# Altium schematic symbol library IC.DDS,LO,PLL.SchLib: 8 symbols
Pins are listed as number, name and electrical type; pins without a type are passive.

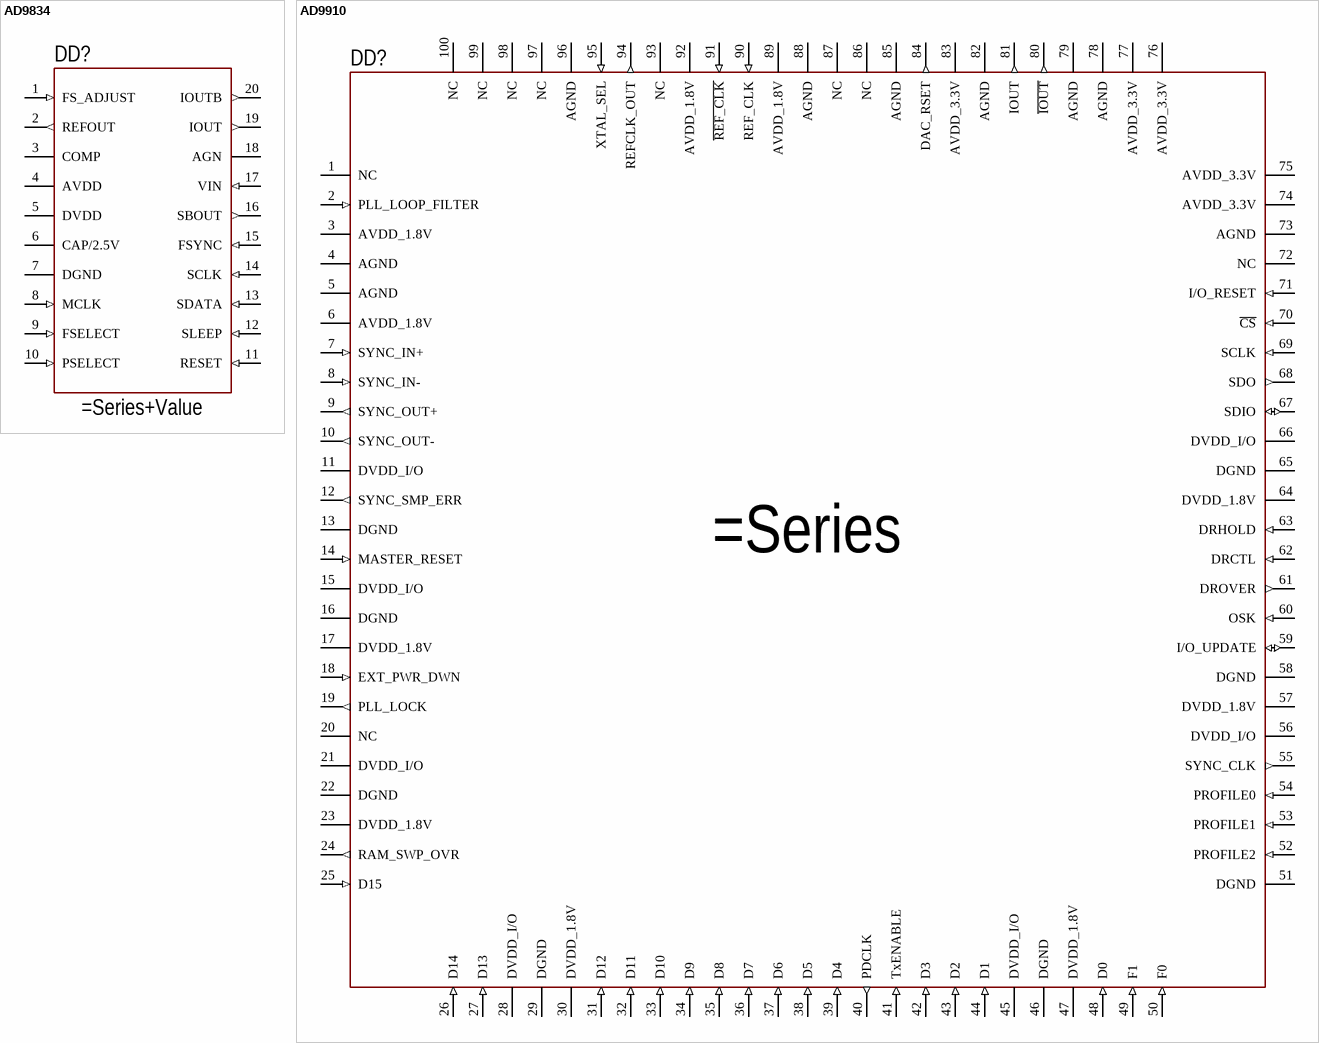
[diagram p0: symbols AD9834 to AD9910]

## AD9834
designator DD?
75 MHz Complete DDS, 20 mW Power, 2.3 V to 5.5 V
pins: 1 FS_ADJUST (in), 2 REFOUT (out), 3 COMP, 4 AVDD, 5 DVDD, 6 CAP/2.5V, 7 DGND, 8 MCLK (in), 9 FSELECT (in), 10 PSELECT (in), 11 RESET (in), 12 SLEEP (in), 13 SDATA (in), 14 SCLK (in), 15 FSYNC (in), 16 SBOUT (out), 17 VIN (in), 18 AGN, 19 IOUT (out), 20 IOUTB (out)

## AD9910
designator DD?
1 GSPS, 14-Bit, 3.3 V CMOS Direct Digital Synthesizer
pins: 1 NC, 2 PLL_LOOP_FILTER (in), 3 AVDD_1.8V, 4 AGND, 5 AGND, 6 AVDD_1.8V, 7 SYNC_IN+ (in), 8 SYNC_IN- (in), 9 SYNC_OUT+ (out), 10 SYNC_OUT- (out), 11 DVDD_I/O, 12 SYNC_SMP_ERR (out), 13 DGND, 14 MASTER_RESET (in), 15 DVDD_I/O, 16 DGND, 17 DVDD_1.8V, 18 EXT_PWR_DWN (in), 19 PLL_LOCK (out), 20 NC, 21 DVDD_I/O, 22 DGND, 23 DVDD_1.8V, 24 RAM_SWP_OVR (out), 25 D15 (in), 26 D14 (in), 27 D13 (in), 28 DVDD_I/O, 29 DGND, 30 DVDD_1.8V, 31 D12 (in), 32 D11 (in), 33 D10 (in), 34 D9 (in), 35 D8 (in), 36 D7 (in), 37 D6 (in), 38 D5 (in), 39 D4 (in), 40 PDCLK (out), 41 TxENABLE (in), 42 D3 (in), 43 D2 (in), 44 D1 (in), 45 DVDD_I/O, 46 DGND, 47 DVDD_1.8V, 48 D0 (in), 49 F1 (in), 50 F0 (in), 51 DGND, 52 PROFILE2 (in), 53 PROFILE1 (in), 54 PROFILE0 (in), 55 SYNC_CLK (out), 56 DVDD_I/O, 57 DVDD_1.8V, 58 DGND, 59 I/O_UPDATE (io), 60 OSK (in), 61 DROVER (out), 62 DRCTL (in), 63 DRHOLD (in), 64 DVDD_1.8V, 65 DGND, 66 DVDD_I/O, 67 SDIO (io), 68 SDO (out), 69 SCLK (in), 70 ~{CS} (in), 71 I/O_RESET (in), 72 NC, 73 AGND, 74 AVDD_3.3V, 75 AVDD_3.3V, 76 AVDD_3.3V, 77 AVDD_3.3V, 78 AGND, 79 AGND, 80 ~{IOUT} (out), 81 IOUT (out), 82 AGND, 83 AVDD_3.3V, 84 DAC_RSET (out), 85 AGND, 86 NC, 87 NC, 88 AGND, 89 AVDD_1.8V, 90 REF_CLK (in), 91 ~{REF_CLK} (in), 92 AVDD_1.8V, 93 NC, 94 REFCLK_OUT (out), 95 XTAL_SEL (in), 96 AGND, 97 NC, 98 NC, 99 NC, 100 NC, PAD GND (in) hidden to GND

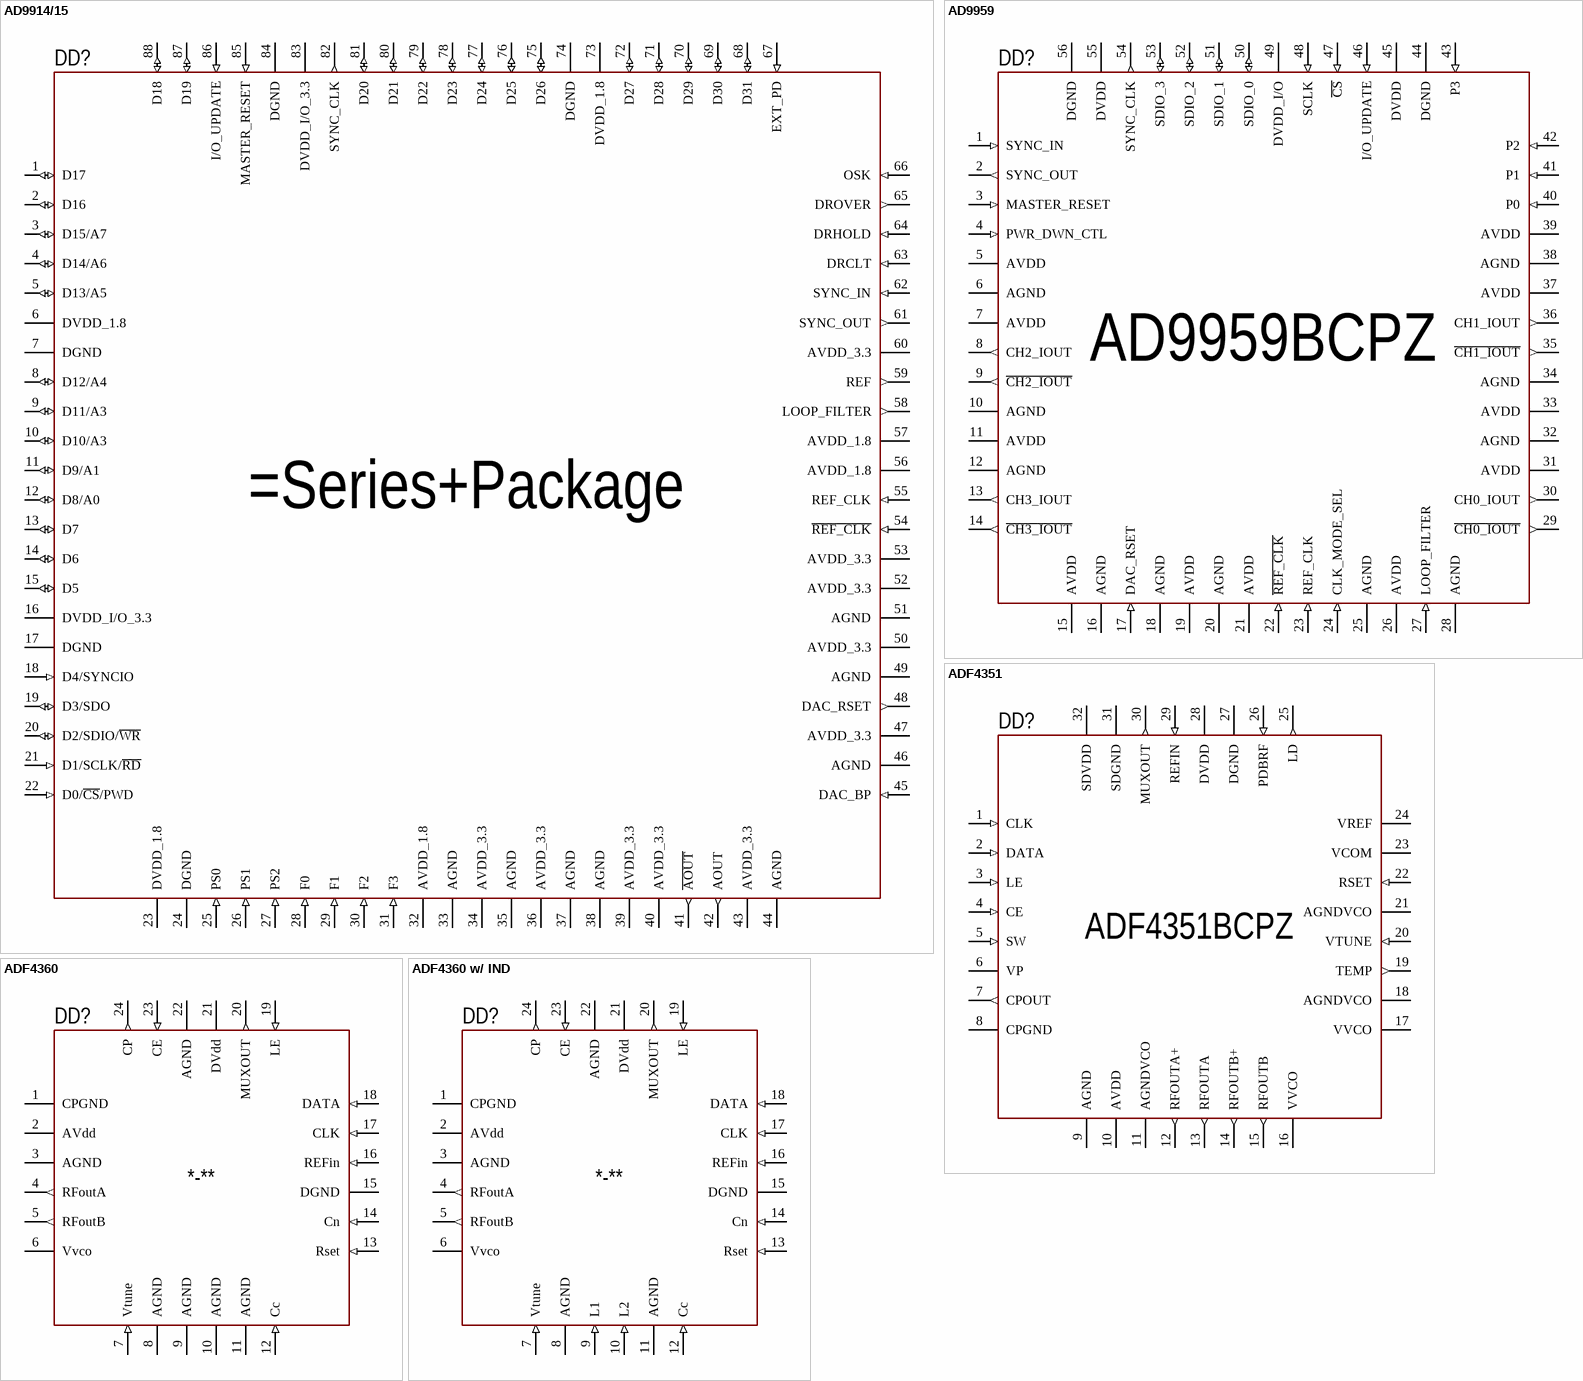
[diagram p1: symbols AD9914/15 to ADF4360 w/ IND]

## AD9914/15
designator DD?
3.5/2.5 GSPS Direct Digital Synthesizer with 12-Bit DAC
pins: 1 D17 (io), 2 D16 (io), 3 D15/A7 (io), 4 D14/A6 (io), 5 D13/A5 (io), 6 DVDD_1.8, 7 DGND, 8 D12/A4 (io), 9 D11/A3 (io), 10 D10/A3 (io), 11 D9/A1 (io), 12 D8/A0 (io), 13 D7 (io), 14 D6 (io), 15 D5 (io), 16 DVDD_I/O_3.3, 17 DGND, 18 D4/SYNCIO (in), 19 D3/SDO (io), 20 D2/SDIO/~{WR} (io), 21 D1/SCLK/~{RD} (in), 22 D0/~{CS}/PWD (in), 23 DVDD_1.8, 24 DGND, 25 PS0 (in), 26 PS1 (in), 27 PS2 (in), 28 F0 (in), 29 F1 (in), 30 F2 (in), 31 F3 (in), 32 AVDD_1.8, 33 AGND, 34 AVDD_3.3, 35 AGND, 36 AVDD_3.3, 37 AGND, 38 AGND, 39 AVDD_3.3, 40 AVDD_3.3, 41 ~{AOUT} (out), 42 AOUT (out), 43 AVDD_3.3, 44 AGND, 45 DAC_BP (in), 46 AGND, 47 AVDD_3.3, 48 DAC_RSET (out), 49 AGND, 50 AVDD_3.3, 51 AGND, 52 AVDD_3.3, 53 AVDD_3.3, 54 ~{REF_CLK} (in), 55 REF_CLK (in), 56 AVDD_1.8, 57 AVDD_1.8, 58 LOOP_FILTER (out), 59 REF (out), 60 AVDD_3.3, 61 SYNC_OUT (out), 62 SYNC_IN (in), 63 DRCLT (in), 64 DRHOLD (in), 65 DROVER (out), 66 OSK (in), 67 EXT_PD (in), 68 D31 (io), 69 D30 (io), 70 D29 (io), 71 D28 (io), 72 D27 (io), 73 DVDD_1.8, 74 DGND, 75 D26 (io), 76 D25 (io), 77 D24 (io), 78 D23 (io), 79 D22 (io), 80 D21 (io), 81 D20 (io), 82 SYNC_CLK (out), 83 DVDD_I/O_3.3, 84 DGND, 85 MASTER_RESET (in), 86 I/O_UPDATE (in), 87 D19 (io), 88 D18 (io), PAD hidden to GND

## AD9959
designator DD?, comment AD9959BCPZ
4-Channel, 500 MSPS DDS with 10-bit DACs; Part: AD9959; Package: BCPZ
pins: 1 SYNC_IN (in), 2 SYNC_OUT (out), 3 MASTER_RESET (in), 4 PWR_DWN_CTL (in), 5 AVDD, 6 AGND, 7 AVDD, 8 CH2_IOUT (out), 9 ~{CH2_IOUT} (out), 10 AGND, 11 AVDD, 12 AGND, 13 CH3_IOUT (out), 14 ~{CH3_IOUT} (out), 15 AVDD, 16 AGND, 17 DAC_RSET (in), 18 AGND, 19 AVDD, 20 AGND, 21 AVDD, 22 ~{REF_CLK} (in), 23 REF_CLK (in), 24 CLK_MODE_SEL (in), 25 AGND, 26 AVDD, 27 LOOP_FILTER (in), 28 AGND, 29 ~{CH0_IOUT} (out), 30 CH0_IOUT (out), 31 AVDD, 32 AGND, 33 AVDD, 34 AGND, 35 ~{CH1_IOUT} (out), 36 CH1_IOUT (out), 37 AVDD, 38 AGND, 39 AVDD, 40 P0 (in), 41 P1 (in), 42 P2 (in), 43 P3 (in), 44 DGND, 45 DVDD, 46 I/O_UPDATE (in), 47 ~{CS} (in), 48 SCLK (in), 49 DVDD_I/O, 50 SDIO_0 (io), 51 SDIO_1 (io), 52 SDIO_2 (io), 53 SDIO_3 (io), 54 SYNC_CLK (out), 55 DVDD, 56 DGND, PAD GND (power) hidden to GND

## ADF4351
designator DD?, comment ADF4351BCPZ
Wideband Synthesizer with Integrated VCO, 35 to 4400 MHz; Package: BCPZ; Part: ADF4351
pins: 1 CLK (in), 2 DATA (in), 3 LE (in), 4 CE (in), 5 SW (in), 6 VP, 7 CPOUT (out), 8 CPGND, 9 AGND, 10 AVDD, 11 AGNDVCO, 12 RFOUTA+ (out), 13 RFOUTA (out), 14 RFOUTB+ (out), 15 RFOUTB (out), 16 VVCO, 17 VVCO, 18 AGNDVCO, 19 TEMP (out), 20 VTUNE (in), 21 AGNDVCO, 22 RSET (in), 23 VCOM, 24 VREF, 25 LD (out), 26 PDBRF (in), 27 DGND (power), 28 DVDD, 29 REFIN (in), 30 MUXOUT (out), 31 SDGND, 32 SDVDD, PAD GND hidden to GND

## ADF4360
designator DD?, comment *-**
ADF4360 Series Synthesizer and VCO; Series: *; Value: *; Package: *
pins: 1 CPGND, 2 AVdd, 3 AGND, 4 RFoutA (out), 5 RFoutB (out), 6 Vvco, 7 Vtune (in), 8 AGND, 9 AGND, 10 AGND, 11 AGND, 12 Cc (in), 13 Rset (in), 14 Cn (in), 15 DGND, 16 REFin (in), 17 CLK (in), 18 DATA (in), 19 LE (in), 20 MUXOUT (out), 21 DVdd, 22 AGND, 23 CE (in), 24 CP (out), PAD hidden to GND

## ADF4360 w/ IND
designator DD?, comment *-**
ADF4360 Series Synthesizer and VCO with External Inductors; Series: *; Value: *; Package: *
pins: 1 CPGND, 2 AVdd, 3 AGND, 4 RFoutA (out), 5 RFoutB (out), 6 Vvco, 7 Vtune (in), 8 AGND, 9 L1 (in), 10 L2 (in), 11 AGND, 12 Cc (in), 13 Rset (in), 14 Cn (in), 15 DGND, 16 REFin (in), 17 CLK (in), 18 DATA (in), 19 LE (in), 20 MUXOUT (out), 21 DVdd, 22 AGND, 23 CE (in), 24 CP (out), PAD hidden to GND

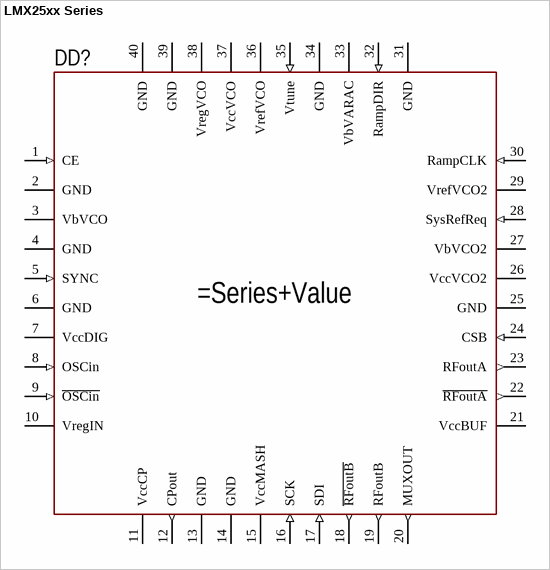
[diagram p2: symbol LMX25xx Series]

## LMX25xx Series
designator DD?
Low power wideband RF synthesizer with phase synchronization and JESD204B support
pins: 1 CE (in), 2 GND, 3 VbVCO, 4 GND, 5 SYNC (in), 6 GND, 7 VccDIG, 8 OSCin (in), 9 ~{OSCin} (in), 10 VregIN, 11 VccCP, 12 CPout (out), 13 GND, 14 GND, 15 VccMASH, 16 SCK (in), 17 SDI (in), 18 ~{RFoutB} (out), 19 RFoutB (out), 20 MUXOUT (out), 21 VccBUF, 22 ~{RFoutA} (out), 23 RFoutA (out), 24 CSB (in), 25 GND, 26 VccVCO2, 27 VbVCO2, 28 SysRefReq (in), 29 VrefVCO2, 30 RampCLK (in), 31 GND, 32 RampDIR (in), 33 VbVARAC, 34 GND, 35 Vtune (in), 36 VrefVCO, 37 VccVCO, 38 VregVCO, 39 GND, 40 GND, PAD GND hidden to GND